# EAGLE library part TPS61259YFFR (library TPS6125x)
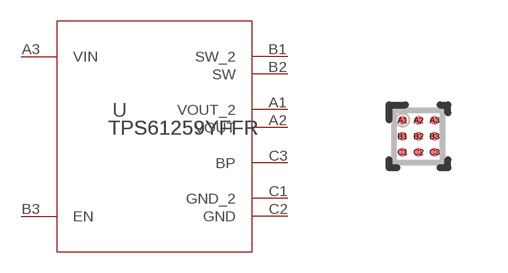
[diagram p0: symbol with the pads of YFF0009ACAG; footprint YFF0009ACAG]

Designator prefix U

## TPS61259YFFR (COPYRIGHT: Copyright (C) 2022 Ultra Librarian. All rights reserved.; DIGI-KEY_PART_NUMBER_1: 296-34931-1-ND; DIGI-KEY_PART_NUMBER_2: 296-34931-2-ND; DIGI-KEY_PART_NUMBER_3: 296-34931-6-ND; DIGI-KEY_PART_NUMBER_4: 2156-TPS61259YFFR-ND; DIGIKEY: 296-34931-2-ND; MANUFACTURER_PART_NUMBER: TPS61259YFFR; MFR_NAME: Texas Instruments; REFDES: RefDes; TYPE: TYPE)  [YFF0009ACAG]
A1  VOUT_2  pwr
A2  VOUT  pwr
A3  VIN  pwr
B1  SW_2
B2  SW
B3  EN  in
C1  GND_2  pwr
C2  GND  pwr
C3  BP  in

## Footprint YFF0009ACAG (pad centres in mm)
smd 0.23 x 0.23: A1 -0.4,0.4; A2 0,0.4; A3 0.4,0.4; B1 -0.4,0; B2 0,0; B3 0.4,0; C1 -0.4,-0.4; C2 0,-0.4; C3 0.4,-0.4